# Altium footprint library SON.PcbLib: 3 footprints
Each footprint in its own frame and in the unit in brackets; x right, y up, seen from the top. Pads: shape width x height; smd on the part's side, far side on the other; paste and mask are expansions set on the pad; w line width, h text height; cw(c..) or ccw(c..) is an arc to the next point about the centre after c.
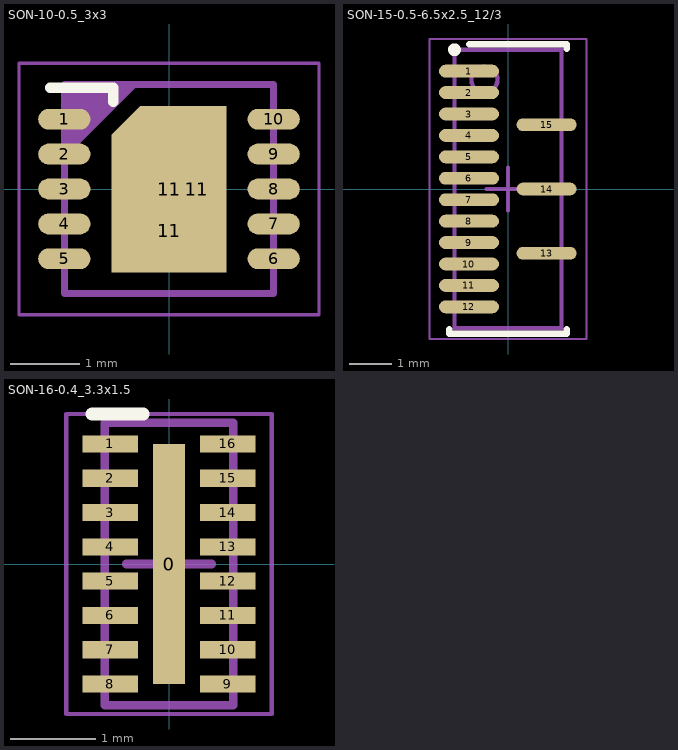
[diagram p0: the footprints below, top view; thin cyan lines are the x and y axes]

## SON-10-0.5_3x3 [mm] "SON, 0.50mm Pitch, 10-pin, 3.00mm W  X 3.00mm L X 0.80mm Height, (w/thermal tab 1.75 X 2.48 mm), IPC Medium Density"
height 0.8
pads (13):
  oval 0.75x0.3 smd: 1(-1.5,1) 2(-1.5,0.5) 3(-1.5,0) 4(-1.5,-0.5) 5(-1.5,-1) 6(1.5,-1) 7(1.5,-0.5) 8(1.5,0) 9(1.5,0.5) 10(1.5,1)
  rect 1.65x1.19 smd: 11(0,-0.6)
  oct 1.65x2.38 smd: 11(0,0)
  rect 0.85x2.38 smd: 11(0.4,0)
Top Overlay:
  lines w0.15: -1.7,1.45 -0.8,1.45 -0.8,1.25
ASM Top:
  lines w0.1: -1.5,0.5 -0.5,1.5 ; -1.5,0.6 -0.6,1.5 ; -1.5,0.7 -0.7,1.5 ; -1.5,0.8 -0.8,1.5 ; -1.5,0.9 -0.9,1.5 ; -1.5,1 -1,1.5 ; -1.5,1.1 -1.1,1.5 ; -1.5,1.2 -1.2,1.5 ; -1.5,1.3 -1.3,1.5 ; -1.5,1.4 -1.4,1.5 ; -1.5,-1.5 1.5,-1.5 1.5,1.5 -1.5,1.5 -1.5,-1.5
  text ".Designator" at -0.85,-0.55 h0.7
PNP Top:
  circle w0.05: c0,0 r0.35
  lines w0.05: -0.5,0 0.5,0 ; 0,-0.5 0,0.5 ; -2.15,-1.8 -2.15,1.8 2.15,1.8 2.15,-1.8 -2.15,-1.8
3D body "SON50P300X300X80-11N-R175X248.stp": height 0.8, standoff 0, extent -1.5,-1.5 1.5,1.5

## SON-15-0.5-6.5x2.5_12/3 [mm] "SON, 24-Leads, Body 6,50x2,50mm, Pitch 0,50mm, IPC Medium Density"
height 0.8
pads (15):
  oval 1.4x0.3 smd: 1(-0.91,2.75) 2(-0.91,2.25) 3(-0.91,1.75) 4(-0.91,1.25) 5(-0.91,0.75) 6(-0.91,0.25) 7(-0.91,-0.25) 8(-0.91,-0.75) 9(-0.91,-1.25) 10(-0.91,-1.75) 11(-0.91,-2.25) 12(-0.91,-2.75) 13(0.9,-1.5) 14(0.9,0) 15(0.9,1.5)
Top Overlay:
  circle w0.15: c-1.25,3.25 r0.075
  lines w0.15: -1.375,-3.275 -1.375,-3.375 1.375,-3.375 1.375,-3.275 ; -0.9,3.375 1.375,3.375 1.375,3.275
ASM Top:
  circle w0.1: c-0.55,2.55 r0.304
  lines w0.1: -1.25,-3.25 -1.25,3.25 1.25,3.25 1.25,-3.25 -1.25,-3.25
  text ".Designator" at -0.1,1.05 h0.7
PNP Top:
  lines w0.05: -1.835,-3.5 -1.835,3.5 1.835,3.5 1.835,-3.5 -1.835,-3.5
  lines w0.1: -0.5,0 0.5,0 ; 0,-0.5 0,0.5
3D body "SON50P250X80-24N.step": height 0.8, standoff 0, extent -1.33,-3.25 1.33,3.25

## SON-16-0.4_3.3x1.5 [mm]
height 0.55
pads (17):
  rect 0.37x2.8 smd: 0(0,0)
  rect 0.65x0.2 smd: 1(-0.685,1.4) 2(-0.685,1) 3(-0.685,0.6) 4(-0.685,0.2) 5(-0.685,-0.2) 6(-0.685,-0.6) 7(-0.685,-1) 8(-0.685,-1.4) 9(0.685,-1.4) 10(0.685,-1) 11(0.685,-0.6) 12(0.685,-0.2) 13(0.685,0.2) 14(0.685,0.6) 15(0.685,1) 16(0.685,1.4)
Top Overlay:
  lines w0.15: -0.9,1.75 -0.3,1.75
3D Top:
  lines w0.1: -0.75,-1.65 -0.75,1.65 0.75,1.65 0.75,-1.65 -0.75,-1.65
PNP Top:
  lines w0.05: -1.2,-1.75 -1.2,1.75 1.2,1.75 1.2,-1.75 -1.2,-1.75
  lines w0.1: -0.5,0 0.5,0 ; 0,-0.5 0,0.5
3D body "SON127P600-8N.step": height 0.55, standoff 0, extent -0.77,-1.65 0.77,1.65